# EAGLE library part SLG46110G (library GREENPAK)
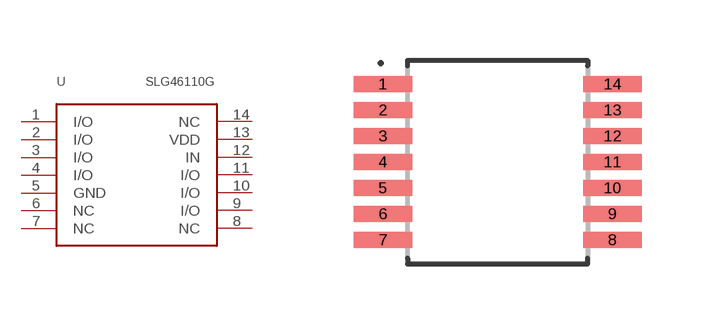
[diagram p48: symbol with the pads of TSSOP-14; footprint TSSOP-14]

Designator prefix -

## SLG46110GTSSOP14  [TSSOP-14]
1  I/O
2  I/O
3  I/O
4  I/O
5  GND
6  NC
7  NC
8  NC
9  I/O
10  I/O
11  I/O
12  IN
13  VDD
14  NC

## Footprint TSSOP-14 (pad centres in mm)
14-SOP, 0.65 mm pitch, 6.4 mm span, 5 X 4.4 X 1.2 mm body 14-pin SOP package with 0.65 mm pitch, 6.4 mm span with body size 5 X 4.4 X 1.2 mm
smd 1.469 x 0.407: 1 -2.871,1.95; 2 -2.871,1.3; 3 -2.871,0.65; 4 -2.871,0; 5 -2.871,-0.65; 6 -2.871,-1.3; 7 -2.871,-1.95; 8 2.871,-1.95; 9 2.871,-1.3; 10 2.871,-0.65; 11 2.871,0; 12 2.871,0.65; 13 2.871,1.3; 14 2.871,1.95